# EAGLE library part FMB5551 (library MDB_HOME_BACK2)
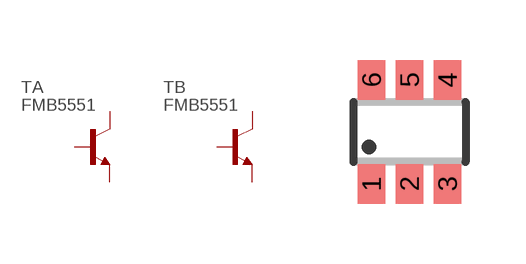
[diagram p8: symbol with the pads of SSOT6; footprint SSOT6]

Designator prefix T; gates A=NPN B=NPN

## FMB5551_1  [SSOT6]
1  A:B  pas
2  B:E  pas
3  B:B  pas
4  B:C  pas
5  A:E  pas
6  A:C  pas

## Footprint SSOT6 (pad centres in mm)
SuperSOT-6 Source: Fairchild Semiconductor International ssot6_dim.pdf September 1998, Rev. A
smd 0.69 x 0.99: 1 -0.95,-1.3; 2 0,-1.3; 3 0.95,-1.3; 4 0.95,1.3; 5 0,1.3; 6 -0.95,1.3